# Altium footprint library FUSE.PcbLib: 3 footprints
Each footprint in its own frame and in the unit in brackets; x right, y up, seen from the top. Pads: shape width x height; smd on the part's side, far side on the other; paste and mask are expansions set on the pad; w line width, h text height; cw(c..) or ccw(c..) is an arc to the next point about the centre after c.
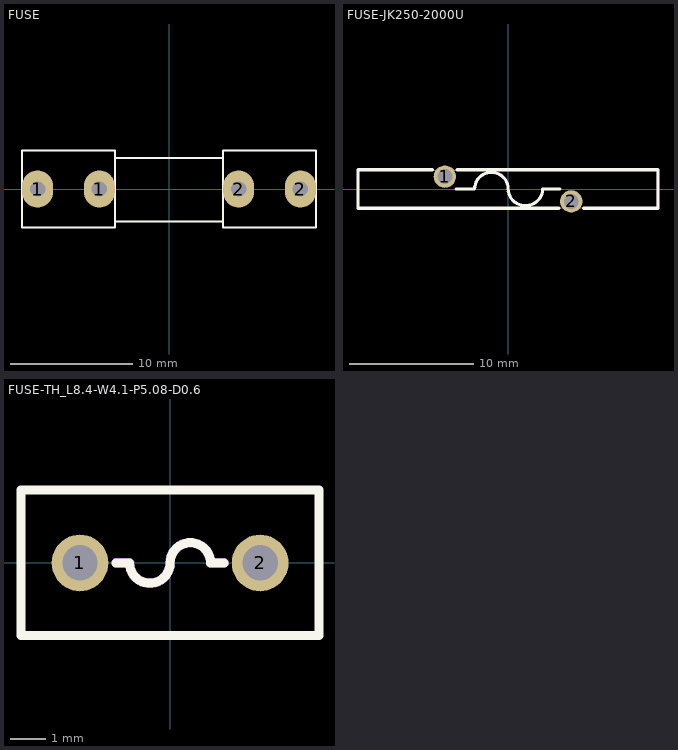
[diagram p0: the footprints below, top view; thin cyan lines are the x and y axes]

## FUSE [mil] "De Fuse"
pads (4):
  oval 100x120 hole 50: 1(-425,0) 1(-225,0) 2(225,0) 2(425,0)
Top Overlay:
  lines w7: -175,-105 175,-105 ; -175,100 175,100 ; -475,-125 -475,125 -175,125 -175,-125 -475,-125 ; 175,-125 475,-125 475,125 175,125 175,-125
Mechanical 29:
  text "'.Designator'" at -300,-10.01 h60
3D body "SW3dPS-Fuse Leg_2009.STEP": height 377.88, standoff -129.94, extent 219,-116.71 459,127
3D body "SW3dPS-Fuse Small 1A.STEP": height 370.39, standoff 169.61, extent -384.79,-98 390.8,102.79
3D body "SW3dPS-Fuse Leg_2009.STEP": height 377.88, standoff -129.94, extent -448,-117 -208,126.71

## FUSE-JK250-2000U [mm]
pads (2):
  round 1.8 hole 1.2: 1(-5.1,1) 2(5.1,-1)
Top Overlay:
  lines w0.254: -6.088,1.55 -12.1,1.55 -12.1,-1.55 4.112,-1.55 ; -4.2,0 -2.7,0 cw(c-1.35,0) 0,0 ; -4.112,1.55 12.1,1.55 12.1,-1.55 6.088,-1.55 ; 0,0.013 ccw(c1.4,0.05) 2.799,0.013 ; 2.8,0 4.2,0
Mechanical 15:
  region: -11.99,1.5 -11.99,1.475 -12.025,1.44 -12.075,1.44 -12.11,1.475 -12.11,1.5 -12.11,1.525 -12.075,1.56 -12.025,1.56 -11.99,1.525
  region: 5.45,-1 5.45,-1.07 5.397,-1.198 5.298,-1.297 5.17,-1.35 5.03,-1.35 4.902,-1.297 4.803,-1.198 4.75,-1.07 4.75,-1 4.75,-0.93 4.803,-0.802 4.902,-0.703 5.03,-0.65 5.17,-0.65 5.298,-0.703 5.397,-0.802 5.45,-0.93
  region: -4.75,1 -4.75,0.93 -4.803,0.802 -4.902,0.703 -5.03,0.65 -5.17,0.65 -5.298,0.703 -5.397,0.802 -5.45,0.93 -5.45,1 -5.45,1.07 -5.397,1.198 -5.298,1.297 -5.17,1.35 -5.03,1.35 -4.902,1.297 -4.803,1.198 -4.75,1.07
  lines w0.051: -12.05,-1.5 -12.05,1.5 12.05,1.5 12.05,-1.5 -12.05,-1.5
3D body "User Library-JK250-600.STEP": height 19.95, standoff -8.05, extent -7.594,-2.953 8.406,2.447

## FUSE-TH_L8.4-W4.1-P5.08-D0.6 [mm]
pads (2):
  round 1.6 hole 1 paste+0 mask+0.05: 1(-2.54,0) 2(2.54,0)
Top Overlay:
  lines w0.254: -1.524,0 -1.143,0 ccw(c-0.572,0) 0,0 cw(c0.572,0) 1.143,0 1.524,0 ; -4.2,-2.05 -4.2,2.05 4.2,2.05 4.2,-2.05 -4.2,-2.05
Mechanical 15:
  drawing of 11 lines, arcs and shapes, not listed
Mechanical 29:
  text "'.Designator'" at -3.556,-0.508 h1.52
3D body "User Library-Littelfuse 392.STEP": height 7.5, standoff -2.5, extent -4.25,-2.252 4.25,2.252